# EAGLE library part ATMEGA32U4 (library rpibout)
ATMEL Mega 32U4 Microcontroller
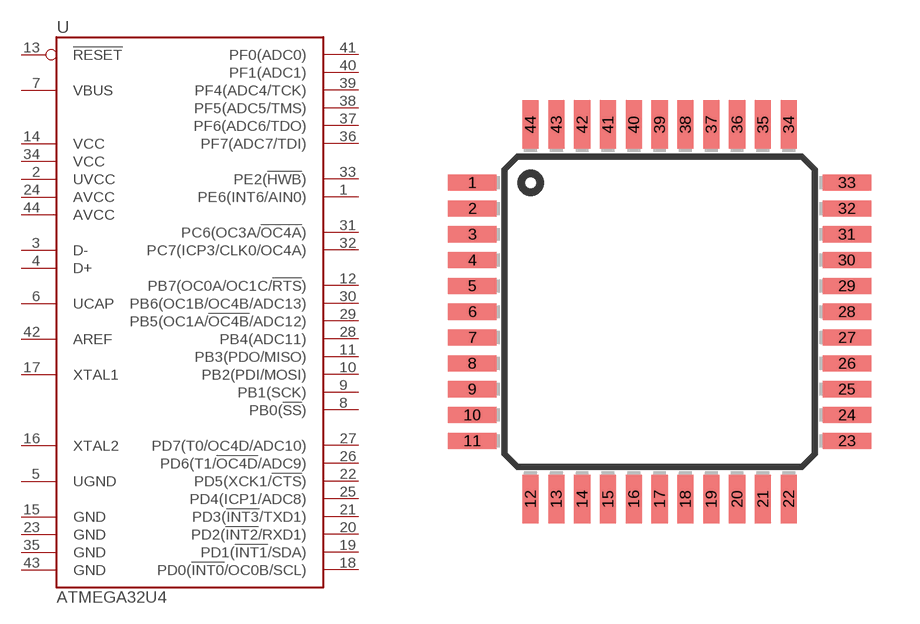
[diagram p4: symbol with the pads of TQFP44; footprint TQFP44]

Designator prefix U

## ATMEGA32U4  [TQFP44]
1  PE6(INT6/AIN0)
2  UVCC
3  D-
4  D+
5  UGND
6  UCAP
7  VBUS
8  PB0(!SS!)
9  PB1(SCK)
10  PB2(PDI/MOSI)
11  PB3(PDO/MISO)
12  PB7(OC0A/OC1C/!RTS!)
13  !RESET!
14  VCC
15  GND
16  XTAL2
17  XTAL1
18  PD0(!INT0!/OC0B/SCL)
19  PD1(!INT1!/SDA)
20  PD2(!INT2!/RXD1)
21  PD3(!INT3!/TXD1)
22  PD5(XCK1/!CTS!)
23  GND
24  AVCC
25  PD4(ICP1/ADC8)
26  PD6(T1/!OC4D!/ADC9)
27  PD7(T0/OC4D/ADC10)
28  PB4(ADC11)
29  PB5(OC1A/!OC4B!/ADC12)
30  PB6(OC1B/OC4B/ADC13)
31  PC6(OC3A/!OC4A!)
32  PC7(ICP3/CLK0/OC4A)
33  PE2(!HWB!)
34  VCC
35  GND
36  PF7(ADC7/TDI)
37  PF6(ADC6/TDO)
38  PF5(ADC5/TMS)
39  PF4(ADC4/TCK)
40  PF1(ADC1)
41  PF0(ADC0)
42  AREF
43  GND
44  AVCC

## Footprint TQFP44 (pad centres in mm)
smd 1.5 x 0.5: 1 -5.8,4; 2 -5.8,3.2; 3 -5.8,2.4; 4 -5.8,1.6; 5 -5.8,0.8; 6 -5.8,0; 7 -5.8,-0.8; 8 -5.8,-1.6; 9 -5.8,-2.4; 10 -5.8,-3.2; 11 -5.8,-4; 23 5.8,-4; 24 5.8,-3.2; 25 5.8,-2.4; 26 5.8,-1.6; 27 5.8,-0.8; 28 5.8,0; 29 5.8,0.8; 30 5.8,1.6; 31 5.8,2.4; 32 5.8,3.2; 33 5.8,4
smd 0.5 x 1.5: 12 -4,-5.8; 13 -3.2,-5.8; 14 -2.4,-5.8; 15 -1.6,-5.8; 16 -0.8,-5.8; 17 0,-5.8; 18 0.8,-5.8; 19 1.6,-5.8; 20 2.4,-5.8; 21 3.2,-5.8; 22 4,-5.8; 34 4,5.8; 35 3.2,5.8; 36 2.4,5.8; 37 1.6,5.8; 38 0.8,5.8; 39 0,5.8; 40 -0.8,5.8; 41 -1.6,5.8; 42 -2.4,5.8; 43 -3.2,5.8; 44 -4,5.8